# Altium integrated library ECQE6682KF3.IntLib: 1 symbol
Pins are listed as number, name and electrical type; pins without a type are passive.

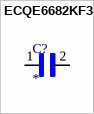
[diagram p0: symbol ECQE6682KF3]

## ECQE6682KF3
designator C?
MP: ECQE6682KF3; Availability: Unavailable; Package: None; Price: None; Value: *
footprint CAPRR500W60L1200T490H1500
pins: 1, 2